# Altium integrated library Panasonic_ERJ_2512.IntLib: 565 symbols (part 11 of 11)
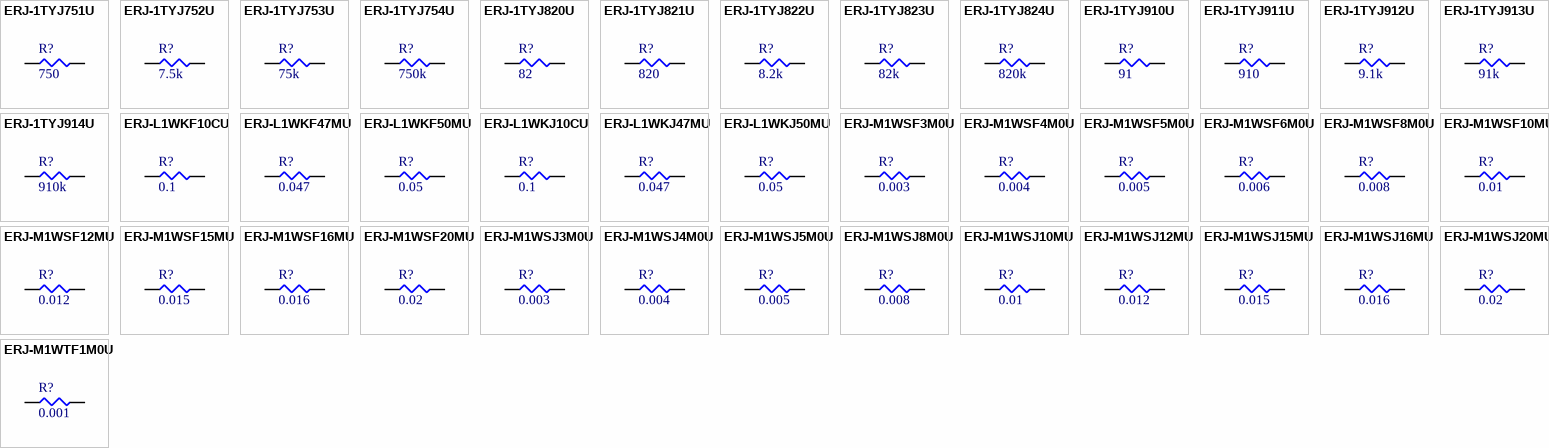
[diagram p24: symbols ERJ-1TYJ751U to ERJ-M1WTF1M0U]

## ERJ-M1WSJ16MU
designator R?, comment 0.016
RES SMD 0.016 OHM 5% 1W 2512; Part Number: ERJ-M1WSJ16MU; Manufacturer: Panasonic Electronic Components; Factory Stock: 0; Unit Price (USD): 0.37050; @ qty: 1500; Minimum Quantity: 1; Temperature Coefficient: ±100ppm/°C; Datasheets: http://industrial.panasonic.com/cdbs/www-data/pdf/RDA0000/AOA0000CE7.pdf; Image: //media.digikey.com/Renders/Panasonic%20Renders/ERJ-2512%20Pkg.jpg; Digi-Key Part Number: P16TCT-ND; Quantity Available: 3846; Packaging: Cut Tape (CT); Series: ERJ; Part Status: Active; Value: 0.016; Tolerance: ±5%; Power (Watts): 1W; Composition: Metal Element; Features: Current Sense; Operating Temperature: -55°C ~ 170°C; Package / Case: 2512 (6432 Metric); Supplier Device Package: 2512; Size / Dimension: 0.252" L x 0.126" W (6.40mm x 3.20mm); Height - Seated (Max): 0.043" (1.10mm); Number of Terminations: 2; Failure Rate: -
footprint SMD-2512-RES
pins: 1, 2

## ERJ-M1WSJ20MU
designator R?, comment 0.02
RES SMD 0.02 OHM 5% 1W 2512; Part Number: ERJ-M1WSJ20MU; Manufacturer: Panasonic Electronic Components; Factory Stock: 0; Unit Price (USD): 0.37050; @ qty: 1500; Minimum Quantity: 1; Temperature Coefficient: ±100ppm/°C; Datasheets: http://industrial.panasonic.com/www-cgi/jvcr13pz.cgi?E+PZ+3+AOA0007+ERJM1WSJ20MU+7+WW; Image: //media.digikey.com/Renders/Panasonic%20Renders/ERJ-2512%20Pkg.jpg; Digi-Key Part Number: P20TCT-ND; Quantity Available: 15327; Packaging: Cut Tape (CT); Series: ERJ; Part Status: Active; Value: 0.02; Tolerance: ±5%; Power (Watts): 1W; Composition: Metal Element; Features: Current Sense; Operating Temperature: -55°C ~ 170°C; Package / Case: 2512 (6432 Metric); Supplier Device Package: 2512; Size / Dimension: 0.252" L x 0.126" W (6.40mm x 3.20mm); Height - Seated (Max): 0.043" (1.10mm); Number of Terminations: 2; Failure Rate: -
footprint SMD-2512-RES
pins: 1, 2

## ERJ-M1WTF1M0U
designator R?, comment 0.001
RES SMD 0.001 OHM 1% 1W 2512; Part Number: ERJ-M1WTF1M0U; Manufacturer: Panasonic Electronic Components; Factory Stock: 0; Unit Price (USD): 0.26384; @ qty: 1500; Minimum Quantity: 1; Temperature Coefficient: 250/ +450ppm/°C; Datasheets: http://industrial.panasonic.com/www-cgi/jvcr13pz.cgi?E+PZ+3+AOA0007+ERJM1WTF1M0U+7+WW; Image: //media.digikey.com/Renders/Panasonic%20Renders/ERJ-2512%20Pkg.jpg; Digi-Key Part Number: P1.0NDCT-ND; Quantity Available: 22959; Packaging: Cut Tape (CT); Series: ERJ; Part Status: Active; Value: 0.001; Tolerance: ±1%; Power (Watts): 1W; Composition: Metal Element; Features: Current Sense; Operating Temperature: -55°C ~ 170°C; Package / Case: 2512 (6432 Metric); Supplier Device Package: 2512; Size / Dimension: 0.252" L x 0.126" W (6.40mm x 3.20mm); Height - Seated (Max): 0.043" (1.10mm); Number of Terminations: 2; Failure Rate: -
footprint SMD-2512-RES
pins: 1, 2

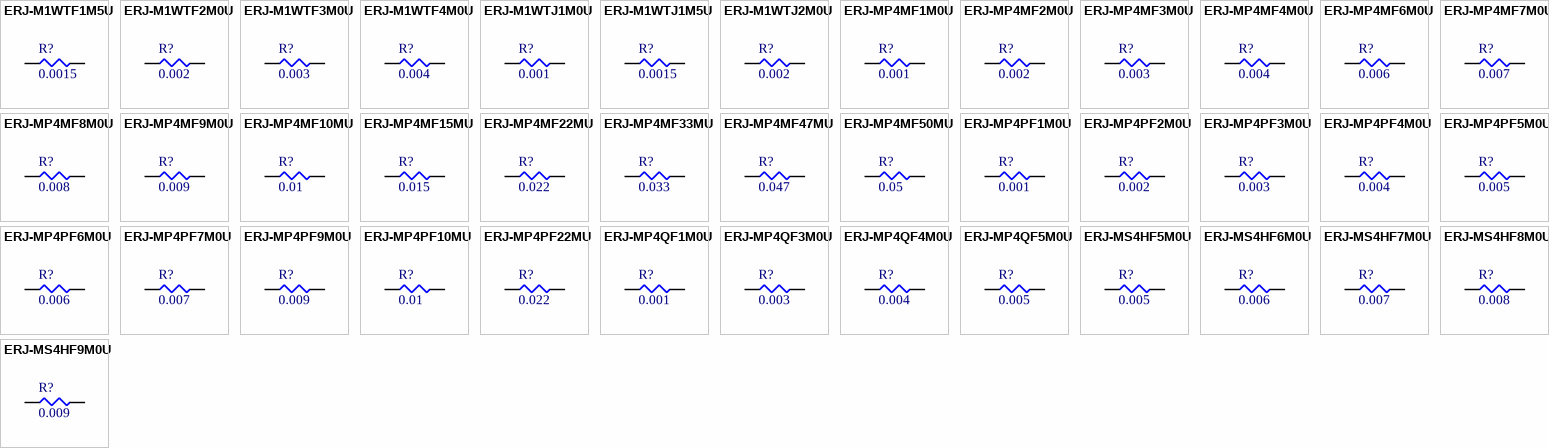
[diagram p13: symbols ERJ-M1WTF1M5U to ERJ-MS4HF9M0U]

## ERJ-M1WTF1M5U
designator R?, comment 0.0015
RES SMD 0.0015 OHM 1% 1W 2512; Part Number: ERJ-M1WTF1M5U; Manufacturer: Panasonic Electronic Components; Factory Stock: 0; Unit Price (USD): 0.26384; @ qty: 1500; Minimum Quantity: 1; Temperature Coefficient: 250/ +450ppm/°C; Datasheets: http://industrial.panasonic.com/cdbs/www-data/pdf/RDA0000/AOA0000CE7.pdf; Image: //media.digikey.com/Renders/Panasonic%20Renders/ERJ-2512%20Pkg.jpg; Digi-Key Part Number: P1.5NDCT-ND; Quantity Available: 20345; Packaging: Cut Tape (CT); Series: ERJ; Part Status: Active; Value: 0.0015; Tolerance: ±1%; Power (Watts): 1W; Composition: Metal Element; Features: Current Sense; Operating Temperature: -55°C ~ 170°C; Package / Case: 2512 (6432 Metric); Supplier Device Package: 2512; Size / Dimension: 0.252" L x 0.126" W (6.40mm x 3.20mm); Height - Seated (Max): 0.043" (1.10mm); Number of Terminations: 2; Failure Rate: -
footprint SMD-2512-RES
pins: 1, 2

## ERJ-M1WTF2M0U
designator R?, comment 0.002
RES SMD 0.002 OHM 1% 1W 2512; Part Number: ERJ-M1WTF2M0U; Manufacturer: Panasonic Electronic Components; Factory Stock: 0; Unit Price (USD): 0.26384; @ qty: 1500; Minimum Quantity: 1; Temperature Coefficient: 50/ +150ppm/°C; Datasheets: http://industrial.panasonic.com/cdbs/www-data/pdf/RDA0000/AOA0000CE7.pdf; Image: //media.digikey.com/Renders/Panasonic%20Renders/ERJ-2512%20Pkg.jpg; Digi-Key Part Number: P2.0NDCT-ND; Quantity Available: 2423; Packaging: Cut Tape (CT); Series: ERJ; Part Status: Active; Value: 0.002; Tolerance: ±1%; Power (Watts): 1W; Composition: Metal Element; Features: Current Sense; Operating Temperature: -55°C ~ 170°C; Package / Case: 2512 (6432 Metric); Supplier Device Package: 2512; Size / Dimension: 0.252" L x 0.126" W (6.40mm x 3.20mm); Height - Seated (Max): 0.043" (1.10mm); Number of Terminations: 2; Failure Rate: -
footprint SMD-2512-RES
pins: 1, 2

## ERJ-M1WTF3M0U
designator R?, comment 0.003
RES SMD 0.003 OHM 1% 1W 2512; Part Number: ERJ-M1WTF3M0U; Manufacturer: Panasonic Electronic Components; Factory Stock: 0; Unit Price (USD): 0.26384; @ qty: 1500; Minimum Quantity: 1; Temperature Coefficient: 50/ +150ppm/°C; Datasheets: http://industrial.panasonic.com/www-cgi/jvcr13pz.cgi?E+PZ+3+AOA0007+ERJM1WTF3M0U+7+WW; Image: //media.digikey.com/Renders/Panasonic%20Renders/ERJ-2512%20Pkg.jpg; Digi-Key Part Number: P3.0NDCT-ND; Quantity Available: 21799; Packaging: Cut Tape (CT); Series: ERJ; Part Status: Active; Value: 0.003; Tolerance: ±1%; Power (Watts): 1W; Composition: Metal Element; Features: Current Sense; Operating Temperature: -55°C ~ 170°C; Package / Case: 2512 (6432 Metric); Supplier Device Package: 2512; Size / Dimension: 0.252" L x 0.126" W (6.40mm x 3.20mm); Height - Seated (Max): 0.043" (1.10mm); Number of Terminations: 2; Failure Rate: -
footprint SMD-2512-RES
pins: 1, 2

## ERJ-M1WTF4M0U
designator R?, comment 0.004
RES SMD 0.004 OHM 1% 1W 2512; Part Number: ERJ-M1WTF4M0U; Manufacturer: Panasonic Electronic Components; Factory Stock: 0; Unit Price (USD): 0.26384; @ qty: 1500; Minimum Quantity: 1; Temperature Coefficient: 50/ +150ppm/°C; Datasheets: http://industrial.panasonic.com/www-cgi/jvcr13pz.cgi?E+PZ+3+AOA0007+ERJM1WTF4M0U+7+WW; Image: //media.digikey.com/Renders/Panasonic%20Renders/ERJ-2512%20Pkg.jpg; Digi-Key Part Number: P4.0NDCT-ND; Quantity Available: 5848; Packaging: Cut Tape (CT); Series: ERJ; Part Status: Active; Value: 0.004; Tolerance: ±1%; Power (Watts): 1W; Composition: Metal Element; Features: Current Sense; Operating Temperature: -55°C ~ 170°C; Package / Case: 2512 (6432 Metric); Supplier Device Package: 2512; Size / Dimension: 0.252" L x 0.126" W (6.40mm x 3.20mm); Height - Seated (Max): 0.043" (1.10mm); Number of Terminations: 2; Failure Rate: -
footprint SMD-2512-RES
pins: 1, 2

## ERJ-M1WTJ1M0U
designator R?, comment 0.001
RES SMD 0.001 OHM 5% 1W 2512; Part Number: ERJ-M1WTJ1M0U; Manufacturer: Panasonic Electronic Components; Factory Stock: 0; Unit Price (USD): 0.37180; @ qty: 1500; Minimum Quantity: 1; Temperature Coefficient: 250/ +450ppm/°C; Datasheets: http://industrial.panasonic.com/www-cgi/jvcr13pz.cgi?E+PZ+3+AOA0007+ERJM1WTJ1M0U+7+WW; Image: //media.digikey.com/Renders/Panasonic%20Renders/ERJ-2512%20Pkg.jpg; Digi-Key Part Number: P1.0TCT-ND; Quantity Available: 19488; Packaging: Cut Tape (CT); Series: ERJ; Part Status: Active; Value: 0.001; Tolerance: ±5%; Power (Watts): 1W; Composition: Metal Element; Features: Current Sense; Operating Temperature: -55°C ~ 170°C; Package / Case: 2512 (6432 Metric); Supplier Device Package: 2512; Size / Dimension: 0.252" L x 0.126" W (6.40mm x 3.20mm); Height - Seated (Max): 0.043" (1.10mm); Number of Terminations: 2; Failure Rate: -
footprint SMD-2512-RES
pins: 1, 2

## ERJ-M1WTJ1M5U
designator R?, comment 0.0015
RES SMD 0.0015 OHM 5% 1W 2512; Part Number: ERJ-M1WTJ1M5U; Manufacturer: Panasonic Electronic Components; Factory Stock: 0; Unit Price (USD): 0.37180; @ qty: 1500; Minimum Quantity: 1; Temperature Coefficient: 250/ +450ppm/°C; Datasheets: http://industrial.panasonic.com/www-cgi/jvcr13pz.cgi?E+PZ+3+AOA0007+ERJM1WTJ1M5U+7+WW; Image: //media.digikey.com/Renders/Panasonic%20Renders/ERJ-2512%20Pkg.jpg; Digi-Key Part Number: P1.5TCT-ND; Quantity Available: 3868; Packaging: Cut Tape (CT); Series: ERJ; Part Status: Active; Value: 0.0015; Tolerance: ±5%; Power (Watts): 1W; Composition: Metal Element; Features: Current Sense; Operating Temperature: -55°C ~ 170°C; Package / Case: 2512 (6432 Metric); Supplier Device Package: 2512; Size / Dimension: 0.252" L x 0.126" W (6.40mm x 3.20mm); Height - Seated (Max): 0.043" (1.10mm); Number of Terminations: 2; Failure Rate: -
footprint SMD-2512-RES
pins: 1, 2

## ERJ-M1WTJ2M0U
designator R?, comment 0.002
RES SMD 0.002 OHM 5% 1W 2512; Part Number: ERJ-M1WTJ2M0U; Manufacturer: Panasonic Electronic Components; Factory Stock: 0; Unit Price (USD): 0.37180; @ qty: 1500; Minimum Quantity: 1; Temperature Coefficient: 50/ +150ppm/°C; Datasheets: http://industrial.panasonic.com/www-cgi/jvcr13pz.cgi?E+PZ+3+AOA0007+ERJM1WTJ2M0U+7+WW; Image: //media.digikey.com/Renders/Panasonic%20Renders/ERJ-2512%20Pkg.jpg; Digi-Key Part Number: P2.0TCT-ND; Quantity Available: 10603; Packaging: Cut Tape (CT); Series: ERJ; Part Status: Active; Value: 0.002; Tolerance: ±5%; Power (Watts): 1W; Composition: Metal Element; Features: Current Sense; Operating Temperature: -55°C ~ 170°C; Package / Case: 2512 (6432 Metric); Supplier Device Package: 2512; Size / Dimension: 0.252" L x 0.126" W (6.40mm x 3.20mm); Height - Seated (Max): 0.043" (1.10mm); Number of Terminations: 2; Failure Rate: -
footprint SMD-2512-RES
pins: 1, 2

## ERJ-MP4MF1M0U
designator R?, comment 0.001
RES SMD 0.001 OHM 1% 1W 2512; Part Number: ERJ-MP4MF1M0U; Manufacturer: Panasonic Electronic Components; Factory Stock: 0; Unit Price (USD): 0.20307; @ qty: 1500; Minimum Quantity: 1; Temperature Coefficient: ±75ppm/°C; Datasheets: https://industrial.panasonic.com/cdbs/www-data/pdf/RDA0000/AOA0000C263.pdf; Image: //media.digikey.com/Photos/Panasonic%20Elect%20Works%20Photos/MFG_ERJ-MS4.jpg; Digi-Key Part Number: P19390CT-ND; Quantity Available: 3950; Packaging: Cut Tape (CT); Series: ERJ; Part Status: Active; Value: 0.001; Tolerance: ±1%; Power (Watts): 1W; Composition: Metal Element; Features: Automotive AEC-Q200, Current Sense, Moisture Resistant; Operating Temperature: -65°C ~ 170°C; Package / Case: 2512 (6432 Metric); Supplier Device Package: 2512; Size / Dimension: 0.252" L x 0.126" W (6.40mm x 3.20mm); Height - Seated (Max): 0.045" (1.15mm); Number of Terminations: 2; Failure Rate: -
footprint SMD-2512-RES
pins: 1, 2

## ERJ-MP4MF2M0U
designator R?, comment 0.002
RES SMD 0.002 OHM 1% 1W 2512; Part Number: ERJ-MP4MF2M0U; Manufacturer: Panasonic Electronic Components; Factory Stock: 0; Unit Price (USD): 0.20307; @ qty: 1500; Minimum Quantity: 1; Temperature Coefficient: ±75ppm/°C; Datasheets: https://industrial.panasonic.com/cdbs/www-data/pdf/RDA0000/AOA0000C263.pdf; Image: //media.digikey.com/Photos/Panasonic%20Elect%20Works%20Photos/MFG_ERJ-MS4.jpg; Digi-Key Part Number: P19392CT-ND; Quantity Available: 1994; Packaging: Cut Tape (CT); Series: ERJ; Part Status: Active; Value: 0.002; Tolerance: ±1%; Power (Watts): 1W; Composition: Metal Element; Features: Automotive AEC-Q200, Current Sense, Moisture Resistant; Operating Temperature: -65°C ~ 170°C; Package / Case: 2512 (6432 Metric); Supplier Device Package: 2512; Size / Dimension: 0.252" L x 0.126" W (6.40mm x 3.20mm); Height - Seated (Max): 0.035" (0.89mm); Number of Terminations: 2; Failure Rate: -
footprint SMD-2512-RES
pins: 1, 2

## ERJ-MP4MF3M0U
designator R?, comment 0.003
RES SMD 0.003 OHM 1% 1W 2512; Part Number: ERJ-MP4MF3M0U; Manufacturer: Panasonic Electronic Components; Factory Stock: 0; Unit Price (USD): 0.20307; @ qty: 1500; Minimum Quantity: 1; Temperature Coefficient: ±75ppm/°C; Datasheets: https://industrial.panasonic.com/cdbs/www-data/pdf/RDA0000/AOA0000C263.pdf; Image: //media.digikey.com/Photos/Panasonic%20Elect%20Works%20Photos/MFG_ERJ-MS4.jpg; Digi-Key Part Number: P19394CT-ND; Quantity Available: 2000; Packaging: Cut Tape (CT); Series: ERJ; Part Status: Active; Value: 0.003; Tolerance: ±1%; Power (Watts): 1W; Composition: Metal Element; Features: Automotive AEC-Q200, Current Sense, Moisture Resistant; Operating Temperature: -65°C ~ 170°C; Package / Case: 2512 (6432 Metric); Supplier Device Package: 2512; Size / Dimension: 0.252" L x 0.126" W (6.40mm x 3.20mm); Height - Seated (Max): 0.035" (0.89mm); Number of Terminations: 2; Failure Rate: -
footprint SMD-2512-RES
pins: 1, 2

## ERJ-MP4MF4M0U
designator R?, comment 0.004
RES SMD 0.004 OHM 1% 1W 2512; Part Number: ERJ-MP4MF4M0U; Manufacturer: Panasonic Electronic Components; Factory Stock: 0; Unit Price (USD): 0.20307; @ qty: 1500; Minimum Quantity: 1; Temperature Coefficient: ±75ppm/°C; Datasheets: https://industrial.panasonic.com/cdbs/www-data/pdf/RDA0000/AOA0000C263.pdf; Image: //media.digikey.com/Photos/Panasonic%20Elect%20Works%20Photos/MFG_ERJ-MS4.jpg; Digi-Key Part Number: P19396CT-ND; Quantity Available: 2000; Packaging: Cut Tape (CT); Series: ERJ; Part Status: Active; Value: 0.004; Tolerance: ±1%; Power (Watts): 1W; Composition: Metal Element; Features: Automotive AEC-Q200, Current Sense, Moisture Resistant; Operating Temperature: -65°C ~ 170°C; Package / Case: 2512 (6432 Metric); Supplier Device Package: 2512; Size / Dimension: 0.252" L x 0.126" W (6.40mm x 3.20mm); Height - Seated (Max): 0.035" (0.89mm); Number of Terminations: 2; Failure Rate: -
footprint SMD-2512-RES
pins: 1, 2

## ERJ-MP4MF6M0U
designator R?, comment 0.006
RES SMD 0.006 OHM 1% 1W 2512; Part Number: ERJ-MP4MF6M0U; Manufacturer: Panasonic Electronic Components; Factory Stock: 0; Unit Price (USD): 0.20307; @ qty: 1500; Minimum Quantity: 1; Temperature Coefficient: ±75ppm/°C; Datasheets: https://industrial.panasonic.com/cdbs/www-data/pdf/RDA0000/AOA0000C263.pdf; Image: //media.digikey.com/Photos/Panasonic%20Elect%20Works%20Photos/MFG_ERJ-MS4.jpg; Digi-Key Part Number: P19399CT-ND; Quantity Available: 2000; Packaging: Cut Tape (CT); Series: ERJ; Part Status: Active; Value: 0.006; Tolerance: ±1%; Power (Watts): 1W; Composition: Metal Element; Features: Automotive AEC-Q200, Current Sense, Moisture Resistant; Operating Temperature: -65°C ~ 170°C; Package / Case: 2512 (6432 Metric); Supplier Device Package: 2512; Size / Dimension: 0.252" L x 0.126" W (6.40mm x 3.20mm); Height - Seated (Max): 0.035" (0.89mm); Number of Terminations: 2; Failure Rate: -
footprint SMD-2512-RES
pins: 1, 2

## ERJ-MP4MF7M0U
designator R?, comment 0.007
RES SMD 0.007 OHM 1% 1W 2512; Part Number: ERJ-MP4MF7M0U; Manufacturer: Panasonic Electronic Components; Factory Stock: 0; Unit Price (USD): 0.20307; @ qty: 1500; Minimum Quantity: 1; Temperature Coefficient: ±75ppm/°C; Datasheets: https://industrial.panasonic.com/cdbs/www-data/pdf/RDA0000/AOA0000C263.pdf; Image: //media.digikey.com/Photos/Panasonic%20Elect%20Works%20Photos/MFG_ERJ-MS4.jpg; Digi-Key Part Number: P19400CT-ND; Quantity Available: 1950; Packaging: Cut Tape (CT); Series: ERJ; Part Status: Active; Value: 0.007; Tolerance: ±1%; Power (Watts): 1W; Composition: Metal Element; Features: Automotive AEC-Q200, Current Sense, Moisture Resistant; Operating Temperature: -65°C ~ 170°C; Package / Case: 2512 (6432 Metric); Supplier Device Package: 2512; Size / Dimension: 0.252" L x 0.126" W (6.40mm x 3.20mm); Height - Seated (Max): 0.035" (0.89mm); Number of Terminations: 2; Failure Rate: -
footprint SMD-2512-RES
pins: 1, 2

## ERJ-MP4MF8M0U
designator R?, comment 0.008
RES SMD 0.008 OHM 1% 1W 2512; Part Number: ERJ-MP4MF8M0U; Manufacturer: Panasonic Electronic Components; Factory Stock: 0; Unit Price (USD): 0.20307; @ qty: 1500; Minimum Quantity: 1; Temperature Coefficient: ±75ppm/°C; Datasheets: https://industrial.panasonic.com/cdbs/www-data/pdf/RDA0000/AOA0000C263.pdf; Image: //media.digikey.com/Photos/Panasonic%20Elect%20Works%20Photos/MFG_ERJ-MS4.jpg; Digi-Key Part Number: P19401CT-ND; Quantity Available: 2000; Packaging: Cut Tape (CT); Series: ERJ; Part Status: Active; Value: 0.008; Tolerance: ±1%; Power (Watts): 1W; Composition: Metal Element; Features: Automotive AEC-Q200, Current Sense, Moisture Resistant; Operating Temperature: -65°C ~ 170°C; Package / Case: 2512 (6432 Metric); Supplier Device Package: 2512; Size / Dimension: 0.252" L x 0.126" W (6.40mm x 3.20mm); Height - Seated (Max): 0.035" (0.89mm); Number of Terminations: 2; Failure Rate: -
footprint SMD-2512-RES
pins: 1, 2

## ERJ-MP4MF9M0U
designator R?, comment 0.009
RES SMD 0.009 OHM 1% 1W 2512; Part Number: ERJ-MP4MF9M0U; Manufacturer: Panasonic Electronic Components; Factory Stock: 0; Unit Price (USD): 0.20307; @ qty: 1500; Minimum Quantity: 1; Temperature Coefficient: ±75ppm/°C; Datasheets: https://industrial.panasonic.com/cdbs/www-data/pdf/RDA0000/AOA0000C263.pdf; Image: //media.digikey.com/Photos/Panasonic%20Elect%20Works%20Photos/MFG_ERJ-MS4.jpg; Digi-Key Part Number: P19402CT-ND; Quantity Available: 2000; Packaging: Cut Tape (CT); Series: ERJ; Part Status: Active; Value: 0.009; Tolerance: ±1%; Power (Watts): 1W; Composition: Metal Element; Features: Automotive AEC-Q200, Current Sense, Moisture Resistant; Operating Temperature: -65°C ~ 170°C; Package / Case: 2512 (6432 Metric); Supplier Device Package: 2512; Size / Dimension: 0.252" L x 0.126" W (6.40mm x 3.20mm); Height - Seated (Max): 0.035" (0.89mm); Number of Terminations: 2; Failure Rate: -
footprint SMD-2512-RES
pins: 1, 2

## ERJ-MP4MF10MU
designator R?, comment 0.01
RES SMD 0.01 OHM 1% 1W 2512; Part Number: ERJ-MP4MF10MU; Manufacturer: Panasonic Electronic Components; Factory Stock: 0; Unit Price (USD): 0.20307; @ qty: 1500; Minimum Quantity: 1; Temperature Coefficient: ±75ppm/°C; Datasheets: https://industrial.panasonic.com/cdbs/www-data/pdf/RDA0000/AOA0000C263.pdf; Image: //media.digikey.com/Photos/Panasonic%20Elect%20Works%20Photos/MFG_ERJ-MS4.jpg; Digi-Key Part Number: P19388CT-ND; Quantity Available: 1900; Packaging: Cut Tape (CT); Series: ERJ; Part Status: Active; Value: 0.01; Tolerance: ±1%; Power (Watts): 1W; Composition: Metal Element; Features: Automotive AEC-Q200, Current Sense, Moisture Resistant; Operating Temperature: -65°C ~ 170°C; Package / Case: 2512 (6432 Metric); Supplier Device Package: 2512; Size / Dimension: 0.252" L x 0.126" W (6.40mm x 3.20mm); Height - Seated (Max): 0.045" (1.15mm); Number of Terminations: 2; Failure Rate: -
footprint SMD-2512-RES
pins: 1, 2

## ERJ-MP4MF15MU
designator R?, comment 0.015
RES SMD 0.015 OHM 1% 1W 2512; Part Number: ERJ-MP4MF15MU; Manufacturer: Panasonic Electronic Components; Factory Stock: 0; Unit Price (USD): 0.20307; @ qty: 1500; Minimum Quantity: 1; Temperature Coefficient: ±75ppm/°C; Datasheets: https://industrial.panasonic.com/cdbs/www-data/pdf/RDA0000/AOA0000C263.pdf; Image: //media.digikey.com/Photos/Panasonic%20Elect%20Works%20Photos/MFG_ERJ-MS4.jpg; Digi-Key Part Number: P19389CT-ND; Quantity Available: 2000; Packaging: Cut Tape (CT); Series: ERJ; Part Status: Active; Value: 0.015; Tolerance: ±1%; Power (Watts): 1W; Composition: Metal Element; Features: Automotive AEC-Q200, Current Sense, Moisture Resistant; Operating Temperature: -65°C ~ 170°C; Package / Case: 2512 (6432 Metric); Supplier Device Package: 2512; Size / Dimension: 0.252" L x 0.126" W (6.40mm x 3.20mm); Height - Seated (Max): 0.045" (1.15mm); Number of Terminations: 2; Failure Rate: -
footprint SMD-2512-RES
pins: 1, 2

## ERJ-MP4MF22MU
designator R?, comment 0.022
RES SMD 0.022 OHM 1% 1W 2512; Part Number: ERJ-MP4MF22MU; Manufacturer: Panasonic Electronic Components; Factory Stock: 0; Unit Price (USD): 0.20307; @ qty: 1500; Minimum Quantity: 1; Temperature Coefficient: ±75ppm/°C; Datasheets: https://industrial.panasonic.com/cdbs/www-data/pdf/RDA0000/AOA0000C263.pdf; Image: //media.digikey.com/Photos/Panasonic%20Elect%20Works%20Photos/MFG_ERJ-MS4.jpg; Digi-Key Part Number: P19391CT-ND; Quantity Available: 2000; Packaging: Cut Tape (CT); Series: ERJ; Part Status: Active; Value: 0.022; Tolerance: ±1%; Power (Watts): 1W; Composition: Metal Element; Features: Automotive AEC-Q200, Current Sense, Moisture Resistant; Operating Temperature: -65°C ~ 170°C; Package / Case: 2512 (6432 Metric); Supplier Device Package: 2512; Size / Dimension: 0.252" L x 0.126" W (6.40mm x 3.20mm); Height - Seated (Max): 0.035" (0.89mm); Number of Terminations: 2; Failure Rate: -
footprint SMD-2512-RES
pins: 1, 2

## ERJ-MP4MF33MU
designator R?, comment 0.033
RES SMD 0.033 OHM 1% 1W 2512; Part Number: ERJ-MP4MF33MU; Manufacturer: Panasonic Electronic Components; Factory Stock: 0; Unit Price (USD): 0.20307; @ qty: 1500; Minimum Quantity: 1; Temperature Coefficient: ±75ppm/°C; Datasheets: https://industrial.panasonic.com/cdbs/www-data/pdf/RDA0000/AOA0000C263.pdf; Image: //media.digikey.com/Photos/Panasonic%20Elect%20Works%20Photos/MFG_ERJ-MS4.jpg; Digi-Key Part Number: P19393CT-ND; Quantity Available: 1995; Packaging: Cut Tape (CT); Series: ERJ; Part Status: Active; Value: 0.033; Tolerance: ±1%; Power (Watts): 1W; Composition: Metal Element; Features: Automotive AEC-Q200, Current Sense, Moisture Resistant; Operating Temperature: -65°C ~ 170°C; Package / Case: 2512 (6432 Metric); Supplier Device Package: 2512; Size / Dimension: 0.252" L x 0.126" W (6.40mm x 3.20mm); Height - Seated (Max): 0.035" (0.89mm); Number of Terminations: 2; Failure Rate: -
footprint SMD-2512-RES
pins: 1, 2

## ERJ-MP4MF47MU
designator R?, comment 0.047
RES SMD 0.047 OHM 1% 1W 2512; Part Number: ERJ-MP4MF47MU; Manufacturer: Panasonic Electronic Components; Factory Stock: 0; Unit Price (USD): 0.20307; @ qty: 1500; Minimum Quantity: 1; Temperature Coefficient: ±75ppm/°C; Datasheets: https://industrial.panasonic.com/cdbs/www-data/pdf/RDA0000/AOA0000C263.pdf; Image: //media.digikey.com/Photos/Panasonic%20Elect%20Works%20Photos/MFG_ERJ-MS4.jpg; Digi-Key Part Number: P19395CT-ND; Quantity Available: 2000; Packaging: Cut Tape (CT); Series: ERJ; Part Status: Active; Value: 0.047; Tolerance: ±1%; Power (Watts): 1W; Composition: Metal Element; Features: Automotive AEC-Q200, Current Sense, Moisture Resistant; Operating Temperature: -65°C ~ 170°C; Package / Case: 2512 (6432 Metric); Supplier Device Package: 2512; Size / Dimension: 0.252" L x 0.126" W (6.40mm x 3.20mm); Height - Seated (Max): 0.035" (0.89mm); Number of Terminations: 2; Failure Rate: -
footprint SMD-2512-RES
pins: 1, 2

## ERJ-MP4MF50MU
designator R?, comment 0.05
RES SMD 0.05 OHM 1% 1W 2512; Part Number: ERJ-MP4MF50MU; Manufacturer: Panasonic Electronic Components; Factory Stock: 0; Unit Price (USD): 0.20307; @ qty: 1500; Minimum Quantity: 1; Temperature Coefficient: ±75ppm/°C; Datasheets: https://industrial.panasonic.com/cdbs/www-data/pdf/RDA0000/AOA0000C263.pdf; Image: //media.digikey.com/Photos/Panasonic%20Elect%20Works%20Photos/MFG_ERJ-MS4.jpg; Digi-Key Part Number: P19397CT-ND; Quantity Available: 1940; Packaging: Cut Tape (CT); Series: ERJ; Part Status: Active; Value: 0.05; Tolerance: ±1%; Power (Watts): 1W; Composition: Metal Element; Features: Automotive AEC-Q200, Current Sense, Moisture Resistant; Operating Temperature: -65°C ~ 170°C; Package / Case: 2512 (6432 Metric); Supplier Device Package: 2512; Size / Dimension: 0.252" L x 0.126" W (6.40mm x 3.20mm); Height - Seated (Max): 0.035" (0.89mm); Number of Terminations: 2; Failure Rate: -
footprint SMD-2512-RES
pins: 1, 2

## ERJ-MP4PF1M0U
designator R?, comment 0.001
RES SMD 0.001 OHM 1% 2W 2512; Part Number: ERJ-MP4PF1M0U; Manufacturer: Panasonic Electronic Components; Factory Stock: 0; Unit Price (USD): 0.22038; @ qty: 1500; Minimum Quantity: 1; Temperature Coefficient: ±75ppm/°C; Datasheets: https://industrial.panasonic.com/cdbs/www-data/pdf/RDA0000/AOA0000C263.pdf; Image: //media.digikey.com/Photos/Panasonic%20Elect%20Works%20Photos/MFG_ERJ-MS4.jpg; Digi-Key Part Number: P19405CT-ND; Quantity Available: 2000; Packaging: Cut Tape (CT); Series: ERJ; Part Status: Active; Value: 0.001; Tolerance: ±1%; Power (Watts): 2W; Composition: Metal Element; Features: Automotive AEC-Q200, Current Sense, Moisture Resistant; Operating Temperature: -65°C ~ 170°C; Package / Case: 2512 (6432 Metric); Supplier Device Package: 2512; Size / Dimension: 0.252" L x 0.126" W (6.40mm x 3.20mm); Height - Seated (Max): 0.035" (0.89mm); Number of Terminations: 2; Failure Rate: -
footprint SMD-2512-RES
pins: 1, 2

## ERJ-MP4PF2M0U
designator R?, comment 0.002
RES SMD 0.002 OHM 1% 2W 2512; Part Number: ERJ-MP4PF2M0U; Manufacturer: Panasonic Electronic Components; Factory Stock: 0; Unit Price (USD): 0.22038; @ qty: 1500; Minimum Quantity: 1; Temperature Coefficient: ±75ppm/°C; Datasheets: https://industrial.panasonic.com/cdbs/www-data/pdf/RDA0000/AOA0000C263.pdf; Image: //media.digikey.com/Photos/Panasonic%20Elect%20Works%20Photos/MFG_ERJ-MS4.jpg; Digi-Key Part Number: P19407CT-ND; Quantity Available: 1991; Packaging: Cut Tape (CT); Series: ERJ; Part Status: Active; Value: 0.002; Tolerance: ±1%; Power (Watts): 2W; Composition: Metal Element; Features: Automotive AEC-Q200, Current Sense, Moisture Resistant; Operating Temperature: -65°C ~ 170°C; Package / Case: 2512 (6432 Metric); Supplier Device Package: 2512; Size / Dimension: 0.252" L x 0.126" W (6.40mm x 3.20mm); Height - Seated (Max): 0.035" (0.89mm); Number of Terminations: 2; Failure Rate: -
footprint SMD-2512-RES
pins: 1, 2

## ERJ-MP4PF3M0U
designator R?, comment 0.003
RES SMD 0.003 OHM 1% 2W 2512; Part Number: ERJ-MP4PF3M0U; Manufacturer: Panasonic Electronic Components; Factory Stock: 0; Unit Price (USD): 0.22038; @ qty: 1500; Minimum Quantity: 1; Temperature Coefficient: ±75ppm/°C; Datasheets: https://industrial.panasonic.com/cdbs/www-data/pdf/RDA0000/AOA0000C263.pdf; Image: //media.digikey.com/Photos/Panasonic%20Elect%20Works%20Photos/MFG_ERJ-MS4.jpg; Digi-Key Part Number: P19409CT-ND; Quantity Available: 1996; Packaging: Cut Tape (CT); Series: ERJ; Part Status: Active; Value: 0.003; Tolerance: ±1%; Power (Watts): 2W; Composition: Metal Element; Features: Automotive AEC-Q200, Current Sense, Moisture Resistant; Operating Temperature: -65°C ~ 170°C; Package / Case: 2512 (6432 Metric); Supplier Device Package: 2512; Size / Dimension: 0.252" L x 0.126" W (6.40mm x 3.20mm); Height - Seated (Max): 0.035" (0.89mm); Number of Terminations: 2; Failure Rate: -
footprint SMD-2512-RES
pins: 1, 2

## ERJ-MP4PF4M0U
designator R?, comment 0.004
RES SMD 0.004 OHM 1% 2W 2512; Part Number: ERJ-MP4PF4M0U; Manufacturer: Panasonic Electronic Components; Factory Stock: 0; Unit Price (USD): 0.22038; @ qty: 1500; Minimum Quantity: 1; Temperature Coefficient: ±75ppm/°C; Datasheets: https://industrial.panasonic.com/cdbs/www-data/pdf/RDA0000/AOA0000C263.pdf; Image: //media.digikey.com/Photos/Panasonic%20Elect%20Works%20Photos/MFG_ERJ-MS4.jpg; Digi-Key Part Number: P19410CT-ND; Quantity Available: 1977; Packaging: Cut Tape (CT); Series: ERJ; Part Status: Active; Value: 0.004; Tolerance: ±1%; Power (Watts): 2W; Composition: Metal Element; Features: Automotive AEC-Q200, Current Sense, Moisture Resistant; Operating Temperature: -65°C ~ 170°C; Package / Case: 2512 (6432 Metric); Supplier Device Package: 2512; Size / Dimension: 0.252" L x 0.126" W (6.40mm x 3.20mm); Height - Seated (Max): 0.035" (0.89mm); Number of Terminations: 2; Failure Rate: -
footprint SMD-2512-RES
pins: 1, 2

## ERJ-MP4PF5M0U
designator R?, comment 0.005
RES SMD 0.005 OHM 1% 2W 2512; Part Number: ERJ-MP4PF5M0U; Manufacturer: Panasonic Electronic Components; Factory Stock: 0; Unit Price (USD): 0.22038; @ qty: 1500; Minimum Quantity: 1; Temperature Coefficient: ±75ppm/°C; Datasheets: https://industrial.panasonic.com/cdbs/www-data/pdf/RDA0000/AOA0000C263.pdf; Image: //media.digikey.com/Photos/Panasonic%20Elect%20Works%20Photos/MFG_ERJ-MS4.jpg; Digi-Key Part Number: P19411CT-ND; Quantity Available: 1365; Packaging: Cut Tape (CT); Series: ERJ; Part Status: Active; Value: 0.005; Tolerance: ±1%; Power (Watts): 2W; Composition: Metal Element; Features: Automotive AEC-Q200, Current Sense, Moisture Resistant; Operating Temperature: -65°C ~ 170°C; Package / Case: 2512 (6432 Metric); Supplier Device Package: 2512; Size / Dimension: 0.252" L x 0.126" W (6.40mm x 3.20mm); Height - Seated (Max): 0.035" (0.89mm); Number of Terminations: 2; Failure Rate: -
footprint SMD-2512-RES
pins: 1, 2

## ERJ-MP4PF6M0U
designator R?, comment 0.006
RES SMD 0.006 OHM 1% 2W 2512; Part Number: ERJ-MP4PF6M0U; Manufacturer: Panasonic Electronic Components; Factory Stock: 0; Unit Price (USD): 0.22038; @ qty: 1500; Minimum Quantity: 1; Temperature Coefficient: ±75ppm/°C; Datasheets: https://industrial.panasonic.com/cdbs/www-data/pdf/RDA0000/AOA0000C263.pdf; Image: //media.digikey.com/Photos/Panasonic%20Elect%20Works%20Photos/MFG_ERJ-MS4.jpg; Digi-Key Part Number: P19412CT-ND; Quantity Available: 1885; Packaging: Cut Tape (CT); Series: ERJ; Part Status: Active; Value: 0.006; Tolerance: ±1%; Power (Watts): 2W; Composition: Metal Element; Features: Automotive AEC-Q200, Current Sense, Moisture Resistant; Operating Temperature: -65°C ~ 170°C; Package / Case: 2512 (6432 Metric); Supplier Device Package: 2512; Size / Dimension: 0.252" L x 0.126" W (6.40mm x 3.20mm); Height - Seated (Max): 0.035" (0.89mm); Number of Terminations: 2; Failure Rate: -
footprint SMD-2512-RES
pins: 1, 2

## ERJ-MP4PF7M0U
designator R?, comment 0.007
RES SMD 0.007 OHM 1% 2W 2512; Part Number: ERJ-MP4PF7M0U; Manufacturer: Panasonic Electronic Components; Factory Stock: 0; Unit Price (USD): 0.22038; @ qty: 1500; Minimum Quantity: 1; Temperature Coefficient: ±75ppm/°C; Datasheets: https://industrial.panasonic.com/cdbs/www-data/pdf/RDA0000/AOA0000C263.pdf; Image: //media.digikey.com/Photos/Panasonic%20Elect%20Works%20Photos/MFG_ERJ-MS4.jpg; Digi-Key Part Number: P19413CT-ND; Quantity Available: 1871; Packaging: Cut Tape (CT); Series: ERJ; Part Status: Active; Value: 0.007; Tolerance: ±1%; Power (Watts): 2W; Composition: Metal Element; Features: Automotive AEC-Q200, Current Sense, Moisture Resistant; Operating Temperature: -65°C ~ 170°C; Package / Case: 2512 (6432 Metric); Supplier Device Package: 2512; Size / Dimension: 0.252" L x 0.126" W (6.40mm x 3.20mm); Height - Seated (Max): 0.035" (0.89mm); Number of Terminations: 2; Failure Rate: -
footprint SMD-2512-RES
pins: 1, 2

## ERJ-MP4PF9M0U
designator R?, comment 0.009
RES SMD 0.009 OHM 1% 2W 2512; Part Number: ERJ-MP4PF9M0U; Manufacturer: Panasonic Electronic Components; Factory Stock: 0; Unit Price (USD): 0.22038; @ qty: 1500; Minimum Quantity: 1; Temperature Coefficient: ±75ppm/°C; Datasheets: https://industrial.panasonic.com/cdbs/www-data/pdf/RDA0000/AOA0000C263.pdf; Image: //media.digikey.com/Photos/Panasonic%20Elect%20Works%20Photos/MFG_ERJ-MS4.jpg; Digi-Key Part Number: P19415CT-ND; Quantity Available: 1456; Packaging: Cut Tape (CT); Series: ERJ; Part Status: Active; Value: 0.009; Tolerance: ±1%; Power (Watts): 2W; Composition: Metal Element; Features: Automotive AEC-Q200, Current Sense, Moisture Resistant; Operating Temperature: -65°C ~ 170°C; Package / Case: 2512 (6432 Metric); Supplier Device Package: 2512; Size / Dimension: 0.252" L x 0.126" W (6.40mm x 3.20mm); Height - Seated (Max): 0.035" (0.89mm); Number of Terminations: 2; Failure Rate: -
footprint SMD-2512-RES
pins: 1, 2

## ERJ-MP4PF10MU
designator R?, comment 0.01
RES SMD 0.01 OHM 1% 2W 2512; Part Number: ERJ-MP4PF10MU; Manufacturer: Panasonic Electronic Components; Factory Stock: 0; Unit Price (USD): 0.22038; @ qty: 1500; Minimum Quantity: 1; Temperature Coefficient: ±75ppm/°C; Datasheets: https://industrial.panasonic.com/cdbs/www-data/pdf/RDA0000/AOA0000C263.pdf; Image: //media.digikey.com/Photos/Panasonic%20Elect%20Works%20Photos/MFG_ERJ-MS4.jpg; Digi-Key Part Number: P19403CT-ND; Quantity Available: 3925; Packaging: Cut Tape (CT); Series: ERJ; Part Status: Active; Value: 0.01; Tolerance: ±1%; Power (Watts): 2W; Composition: Metal Element; Features: Automotive AEC-Q200, Current Sense, Moisture Resistant; Operating Temperature: -65°C ~ 170°C; Package / Case: 2512 (6432 Metric); Supplier Device Package: 2512; Size / Dimension: 0.252" L x 0.126" W (6.40mm x 3.20mm); Height - Seated (Max): 0.035" (0.89mm); Number of Terminations: 2; Failure Rate: -
footprint SMD-2512-RES
pins: 1, 2

## ERJ-MP4PF22MU
designator R?, comment 0.022
RES SMD 0.022 OHM 1% 2W 2512; Part Number: ERJ-MP4PF22MU; Manufacturer: Panasonic Electronic Components; Factory Stock: 0; Unit Price (USD): 0.22038; @ qty: 1500; Minimum Quantity: 1; Temperature Coefficient: ±75ppm/°C; Datasheets: https://industrial.panasonic.com/cdbs/www-data/pdf/RDA0000/AOA0000C263.pdf; Image: //media.digikey.com/Photos/Panasonic%20Elect%20Works%20Photos/MFG_ERJ-MS4.jpg; Digi-Key Part Number: P19406CT-ND; Quantity Available: 1900; Packaging: Cut Tape (CT); Series: ERJ; Part Status: Active; Value: 0.022; Tolerance: ±1%; Power (Watts): 2W; Composition: Metal Element; Features: Automotive AEC-Q200, Current Sense, Moisture Resistant; Operating Temperature: -65°C ~ 170°C; Package / Case: 2512 (6432 Metric); Supplier Device Package: 2512; Size / Dimension: 0.252" L x 0.126" W (6.40mm x 3.20mm); Height - Seated (Max): 0.035" (0.89mm); Number of Terminations: 2; Failure Rate: -
footprint SMD-2512-RES
pins: 1, 2

## ERJ-MP4QF1M0U
designator R?, comment 0.001
RES SMD 0.001 OHM 1% 3W 2512; Part Number: ERJ-MP4QF1M0U; Manufacturer: Panasonic Electronic Components; Factory Stock: 0; Unit Price (USD): 0.26445; @ qty: 1500; Minimum Quantity: 1; Temperature Coefficient: ±75ppm/°C; Datasheets: https://industrial.panasonic.com/cdbs/www-data/pdf/RDA0000/AOA0000C263.pdf; Image: //media.digikey.com/Photos/Panasonic%20Elect%20Works%20Photos/MFG_ERJ-MS4.jpg; Digi-Key Part Number: P19416CT-ND; Quantity Available: 4000; Packaging: Cut Tape (CT); Series: ERJ; Part Status: Active; Value: 0.001; Tolerance: ±1%; Power (Watts): 3W; Composition: Metal Element; Features: Automotive AEC-Q200, Current Sense, Moisture Resistant; Operating Temperature: -65°C ~ 170°C; Package / Case: 2512 (6432 Metric); Supplier Device Package: 2512; Size / Dimension: 0.252" L x 0.126" W (6.40mm x 3.20mm); Height - Seated (Max): 0.035" (0.89mm); Number of Terminations: 2; Failure Rate: -
footprint SMD-2512-RES
pins: 1, 2

## ERJ-MP4QF3M0U
designator R?, comment 0.003
RES SMD 0.003 OHM 1% 3W 2512; Part Number: ERJ-MP4QF3M0U; Manufacturer: Panasonic Electronic Components; Factory Stock: 0; Unit Price (USD): 0.26445; @ qty: 1500; Minimum Quantity: 1; Temperature Coefficient: ±75ppm/°C; Datasheets: https://industrial.panasonic.com/cdbs/www-data/pdf/RDA0000/AOA0000C263.pdf; Image: //media.digikey.com/Photos/Panasonic%20Elect%20Works%20Photos/MFG_ERJ-MS4.jpg; Digi-Key Part Number: P19418CT-ND; Quantity Available: 2000; Packaging: Cut Tape (CT); Series: ERJ; Part Status: Active; Value: 0.003; Tolerance: ±1%; Power (Watts): 3W; Composition: Metal Element; Features: Automotive AEC-Q200, Current Sense, Moisture Resistant; Operating Temperature: -65°C ~ 170°C; Package / Case: 2512 (6432 Metric); Supplier Device Package: 2512; Size / Dimension: 0.252" L x 0.126" W (6.40mm x 3.20mm); Height - Seated (Max): 0.035" (0.89mm); Number of Terminations: 2; Failure Rate: -
footprint SMD-2512-RES
pins: 1, 2

## ERJ-MP4QF4M0U
designator R?, comment 0.004
RES SMD 0.004 OHM 1% 3W 2512; Part Number: ERJ-MP4QF4M0U; Manufacturer: Panasonic Electronic Components; Factory Stock: 0; Unit Price (USD): 0.26445; @ qty: 1500; Minimum Quantity: 1; Temperature Coefficient: ±75ppm/°C; Datasheets: https://industrial.panasonic.com/cdbs/www-data/pdf/RDA0000/AOA0000C263.pdf; Image: //media.digikey.com/Photos/Panasonic%20Elect%20Works%20Photos/MFG_ERJ-MS4.jpg; Digi-Key Part Number: P19419CT-ND; Quantity Available: 2000; Packaging: Cut Tape (CT); Series: ERJ; Part Status: Active; Value: 0.004; Tolerance: ±1%; Power (Watts): 3W; Composition: Metal Element; Features: Automotive AEC-Q200, Current Sense, Moisture Resistant; Operating Temperature: -65°C ~ 170°C; Package / Case: 2512 (6432 Metric); Supplier Device Package: 2512; Size / Dimension: 0.252" L x 0.126" W (6.40mm x 3.20mm); Height - Seated (Max): 0.035" (0.89mm); Number of Terminations: 2; Failure Rate: -
footprint SMD-2512-RES
pins: 1, 2

## ERJ-MP4QF5M0U
designator R?, comment 0.005
RES SMD 0.005 OHM 1% 3W 2512; Part Number: ERJ-MP4QF5M0U; Manufacturer: Panasonic Electronic Components; Factory Stock: 0; Unit Price (USD): 0.26445; @ qty: 1500; Minimum Quantity: 1; Temperature Coefficient: ±75ppm/°C; Datasheets: https://industrial.panasonic.com/cdbs/www-data/pdf/RDA0000/AOA0000C263.pdf; Image: //media.digikey.com/Photos/Panasonic%20Elect%20Works%20Photos/MFG_ERJ-MS4.jpg; Digi-Key Part Number: P19420CT-ND; Quantity Available: 1890; Packaging: Cut Tape (CT); Series: ERJ; Part Status: Active; Value: 0.005; Tolerance: ±1%; Power (Watts): 3W; Composition: Metal Element; Features: Automotive AEC-Q200, Current Sense, Moisture Resistant; Operating Temperature: -65°C ~ 170°C; Package / Case: 2512 (6432 Metric); Supplier Device Package: 2512; Size / Dimension: 0.252" L x 0.126" W (6.40mm x 3.20mm); Height - Seated (Max): 0.035" (0.89mm); Number of Terminations: 2; Failure Rate: -
footprint SMD-2512-RES
pins: 1, 2

## ERJ-MS4HF5M0U
designator R?, comment 0.005
RES SMD 0.005 OHM 1% 3W 2512; Part Number: ERJ-MS4HF5M0U; Manufacturer: Panasonic Electronic Components; Factory Stock: 0; Unit Price (USD): 0.41555; @ qty: 1500; Minimum Quantity: 1; Temperature Coefficient: ±75ppm/°C; Datasheets: https://industrial.panasonic.com/cdbs/www-data/pdf/RDA0000/AOA0000C266.pdf; Image: //media.digikey.com/Photos/Panasonic%20Elect%20Works%20Photos/MFG_ERJ-MS4.jpg; Digi-Key Part Number: P17093CT-ND; Quantity Available: 1753; Packaging: Cut Tape (CT); Series: ERJ; Part Status: Active; Value: 0.005; Tolerance: ±1%; Power (Watts): 3W; Composition: Metal Element; Features: Automotive AEC-Q200, Current Sense, Moisture Resistant; Operating Temperature: -65°C ~ 170°C; Package / Case: 2512 (6432 Metric); Supplier Device Package: 2512; Size / Dimension: 0.252" L x 0.126" W (6.40mm x 3.20mm); Height - Seated (Max): 0.053" (1.35mm); Number of Terminations: 2; Failure Rate: -
footprint SMD-2512-RES
pins: 1, 2

## ERJ-MS4HF6M0U
designator R?, comment 0.006
RES SMD 0.006 OHM 1% 3W 2512; Part Number: ERJ-MS4HF6M0U; Manufacturer: Panasonic Electronic Components; Factory Stock: 0; Unit Price (USD): 0.41555; @ qty: 1500; Minimum Quantity: 1; Temperature Coefficient: ±75ppm/°C; Datasheets: https://industrial.panasonic.com/cdbs/www-data/pdf/RDA0000/AOA0000C266.pdf; Image: //media.digikey.com/Photos/Panasonic%20Elect%20Works%20Photos/MFG_ERJ-MS4.jpg; Digi-Key Part Number: P17094CT-ND; Quantity Available: 4854; Packaging: Cut Tape (CT); Series: ERJ; Part Status: Active; Value: 0.006; Tolerance: ±1%; Power (Watts): 3W; Composition: Metal Element; Features: Automotive AEC-Q200, Current Sense, Moisture Resistant; Operating Temperature: -65°C ~ 170°C; Package / Case: 2512 (6432 Metric); Supplier Device Package: 2512; Size / Dimension: 0.252" L x 0.126" W (6.40mm x 3.20mm); Height - Seated (Max): 0.053" (1.35mm); Number of Terminations: 2; Failure Rate: -
footprint SMD-2512-RES
pins: 1, 2

## ERJ-MS4HF7M0U
designator R?, comment 0.007
RES SMD 0.007 OHM 1% 2W 2512; Part Number: ERJ-MS4HF7M0U; Manufacturer: Panasonic Electronic Components; Factory Stock: 0; Unit Price (USD): 0.33980; @ qty: 1500; Minimum Quantity: 1; Temperature Coefficient: ±75ppm/°C; Datasheets: https://industrial.panasonic.com/cdbs/www-data/pdf/RDA0000/AOA0000C266.pdf; Image: //media.digikey.com/Photos/Panasonic%20Elect%20Works%20Photos/MFG_ERJ-MS4.jpg; Digi-Key Part Number: P17095CT-ND; Quantity Available: 3902; Packaging: Cut Tape (CT); Series: ERJ; Part Status: Active; Value: 0.007; Tolerance: ±1%; Power (Watts): 2W; Composition: Metal Element; Features: Automotive AEC-Q200, Current Sense, Moisture Resistant; Operating Temperature: -65°C ~ 170°C; Package / Case: 2512 (6432 Metric); Supplier Device Package: 2512; Size / Dimension: 0.252" L x 0.126" W (6.40mm x 3.20mm); Height - Seated (Max): 0.053" (1.35mm); Number of Terminations: 2; Failure Rate: -
footprint SMD-2512-RES
pins: 1, 2

## ERJ-MS4HF8M0U
designator R?, comment 0.008
RES SMD 0.008 OHM 1% 2W 2512; Part Number: ERJ-MS4HF8M0U; Manufacturer: Panasonic Electronic Components; Factory Stock: 0; Unit Price (USD): 0.33980; @ qty: 1500; Minimum Quantity: 1; Temperature Coefficient: ±75ppm/°C; Datasheets: https://industrial.panasonic.com/cdbs/www-data/pdf/RDA0000/AOA0000C266.pdf; Image: //media.digikey.com/Photos/Panasonic%20Elect%20Works%20Photos/MFG_ERJ-MS4.jpg; Digi-Key Part Number: P17096CT-ND; Quantity Available: 3227; Packaging: Cut Tape (CT); Series: ERJ; Part Status: Active; Value: 0.008; Tolerance: ±1%; Power (Watts): 2W; Composition: Metal Element; Features: Automotive AEC-Q200, Current Sense, Moisture Resistant; Operating Temperature: -65°C ~ 170°C; Package / Case: 2512 (6432 Metric); Supplier Device Package: 2512; Size / Dimension: 0.252" L x 0.126" W (6.40mm x 3.20mm); Height - Seated (Max): 0.053" (1.35mm); Number of Terminations: 2; Failure Rate: -
footprint SMD-2512-RES
pins: 1, 2

## ERJ-MS4HF9M0U
designator R?, comment 0.009
RES SMD 0.009 OHM 1% 2W 2512; Part Number: ERJ-MS4HF9M0U; Manufacturer: Panasonic Electronic Components; Factory Stock: 0; Unit Price (USD): 0.33980; @ qty: 1500; Minimum Quantity: 1; Temperature Coefficient: ±75ppm/°C; Datasheets: https://industrial.panasonic.com/cdbs/www-data/pdf/RDA0000/AOA0000C266.pdf; Image: //media.digikey.com/Photos/Panasonic%20Elect%20Works%20Photos/MFG_ERJ-MS4.jpg; Digi-Key Part Number: P17097CT-ND; Quantity Available: 3590; Packaging: Cut Tape (CT); Series: ERJ; Part Status: Active; Value: 0.009; Tolerance: ±1%; Power (Watts): 2W; Composition: Metal Element; Features: Automotive AEC-Q200, Current Sense, Moisture Resistant; Operating Temperature: -65°C ~ 170°C; Package / Case: 2512 (6432 Metric); Supplier Device Package: 2512; Size / Dimension: 0.252" L x 0.126" W (6.40mm x 3.20mm); Height - Seated (Max): 0.053" (1.35mm); Number of Terminations: 2; Failure Rate: -
footprint SMD-2512-RES
pins: 1, 2

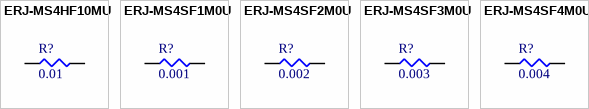
[diagram p14: symbols ERJ-MS4HF10MU to ERJ-MS4SF4M0U]

## ERJ-MS4HF10MU
designator R?, comment 0.01
RES SMD 0.01 OHM 1% 2W 2512; Part Number: ERJ-MS4HF10MU; Manufacturer: Panasonic Electronic Components; Factory Stock: 0; Unit Price (USD): 0.33980; @ qty: 1500; Minimum Quantity: 1; Temperature Coefficient: ±75ppm/°C; Datasheets: https://industrial.panasonic.com/cdbs/www-data/pdf/RDA0000/AOA0000C266.pdf; Image: //media.digikey.com/Photos/Panasonic%20Elect%20Works%20Photos/MFG_ERJ-MS4.jpg; Digi-Key Part Number: P17098CT-ND; Quantity Available: 2874; Packaging: Cut Tape (CT); Series: ERJ; Part Status: Active; Value: 0.01; Tolerance: ±1%; Power (Watts): 2W; Composition: Metal Element; Features: Automotive AEC-Q200, Current Sense, Moisture Resistant; Operating Temperature: -65°C ~ 170°C; Package / Case: 2512 (6432 Metric); Supplier Device Package: 2512; Size / Dimension: 0.252" L x 0.126" W (6.40mm x 3.20mm); Height - Seated (Max): 0.053" (1.35mm); Number of Terminations: 2; Failure Rate: -
footprint SMD-2512-RES
pins: 1, 2

## ERJ-MS4SF1M0U
designator R?, comment 0.001
RES SMD 0.001 OHM 1% 3W 2512; Part Number: ERJ-MS4SF1M0U; Manufacturer: Panasonic Electronic Components; Factory Stock: 0; Unit Price (USD): 0.41555; @ qty: 1500; Minimum Quantity: 1; Temperature Coefficient: ±75ppm/°C; Datasheets: https://industrial.panasonic.com/cdbs/www-data/pdf/RDA0000/AOA0000C266.pdf; Image: //media.digikey.com/Photos/Panasonic%20Elect%20Works%20Photos/MFG_ERJ-MS4.jpg; Digi-Key Part Number: P17089CT-ND; Quantity Available: 1960; Packaging: Cut Tape (CT); Series: ERJ; Part Status: Active; Value: 0.001; Tolerance: ±1%; Power (Watts): 3W; Composition: Metal Element; Features: Automotive AEC-Q200, Current Sense, Moisture Resistant; Operating Temperature: -65°C ~ 170°C; Package / Case: 2512 (6432 Metric); Supplier Device Package: 2512; Size / Dimension: 0.252" L x 0.126" W (6.40mm x 3.20mm); Height - Seated (Max): 0.053" (1.35mm); Number of Terminations: 2; Failure Rate: -
footprint SMD-2512-RES
pins: 1, 2

## ERJ-MS4SF2M0U
designator R?, comment 0.002
RES SMD 0.002 OHM 1% 3W 2512; Part Number: ERJ-MS4SF2M0U; Manufacturer: Panasonic Electronic Components; Factory Stock: 0; Unit Price (USD): 0.41555; @ qty: 1500; Minimum Quantity: 1; Temperature Coefficient: ±75ppm/°C; Datasheets: https://industrial.panasonic.com/cdbs/www-data/pdf/RDA0000/AOA0000C266.pdf; Image: //media.digikey.com/Photos/Panasonic%20Elect%20Works%20Photos/MFG_ERJ-MS4.jpg; Digi-Key Part Number: P17090CT-ND; Quantity Available: 1517; Packaging: Cut Tape (CT); Series: ERJ; Part Status: Active; Value: 0.002; Tolerance: ±1%; Power (Watts): 3W; Composition: Metal Element; Features: Automotive AEC-Q200, Current Sense, Moisture Resistant; Operating Temperature: -65°C ~ 170°C; Package / Case: 2512 (6432 Metric); Supplier Device Package: 2512; Size / Dimension: 0.252" L x 0.126" W (6.40mm x 3.20mm); Height - Seated (Max): 0.053" (1.35mm); Number of Terminations: 2; Failure Rate: -
footprint SMD-2512-RES
pins: 1, 2

## ERJ-MS4SF3M0U
designator R?, comment 0.003
RES SMD 0.003 OHM 1% 3W 2512; Part Number: ERJ-MS4SF3M0U; Manufacturer: Panasonic Electronic Components; Factory Stock: 0; Unit Price (USD): 0.41555; @ qty: 1500; Minimum Quantity: 1; Temperature Coefficient: ±75ppm/°C; Datasheets: https://industrial.panasonic.com/cdbs/www-data/pdf/RDA0000/AOA0000C266.pdf; Image: //media.digikey.com/Photos/Panasonic%20Elect%20Works%20Photos/MFG_ERJ-MS4.jpg; Digi-Key Part Number: P17091CT-ND; Quantity Available: 3523; Packaging: Cut Tape (CT); Series: ERJ; Part Status: Active; Value: 0.003; Tolerance: ±1%; Power (Watts): 3W; Composition: Metal Element; Features: Automotive AEC-Q200, Current Sense, Moisture Resistant; Operating Temperature: -65°C ~ 170°C; Package / Case: 2512 (6432 Metric); Supplier Device Package: 2512; Size / Dimension: 0.252" L x 0.126" W (6.40mm x 3.20mm); Height - Seated (Max): 0.053" (1.35mm); Number of Terminations: 2; Failure Rate: -
footprint SMD-2512-RES
pins: 1, 2

## ERJ-MS4SF4M0U
designator R?, comment 0.004
RES SMD 0.004 OHM 1% 3W 2512; Part Number: ERJ-MS4SF4M0U; Manufacturer: Panasonic Electronic Components; Factory Stock: 0; Unit Price (USD): 0.41555; @ qty: 1500; Minimum Quantity: 1; Temperature Coefficient: ±75ppm/°C; Datasheets: https://industrial.panasonic.com/cdbs/www-data/pdf/RDA0000/AOA0000C266.pdf; Image: //media.digikey.com/Photos/Panasonic%20Elect%20Works%20Photos/MFG_ERJ-MS4.jpg; Digi-Key Part Number: P17092CT-ND; Quantity Available: 2486; Packaging: Cut Tape (CT); Series: ERJ; Part Status: Active; Value: 0.004; Tolerance: ±1%; Power (Watts): 3W; Composition: Metal Element; Features: Automotive AEC-Q200, Current Sense, Moisture Resistant; Operating Temperature: -65°C ~ 170°C; Package / Case: 2512 (6432 Metric); Supplier Device Package: 2512; Size / Dimension: 0.252" L x 0.126" W (6.40mm x 3.20mm); Height - Seated (Max): 0.053" (1.35mm); Number of Terminations: 2; Failure Rate: -
footprint SMD-2512-RES
pins: 1, 2